# Altium footprint library QFN_Sq_50P_Side_V.PcbLib: 33 footprints (part 1 of 3)
Each footprint in its own frame and in the unit in brackets; x right, y up, seen from the top. Pads: shape width x height; smd on the part's side, far side on the other; paste and mask are expansions set on the pad; w line width, h text height; cw(c..) or ccw(c..) is an arc to the next point about the centre after c.
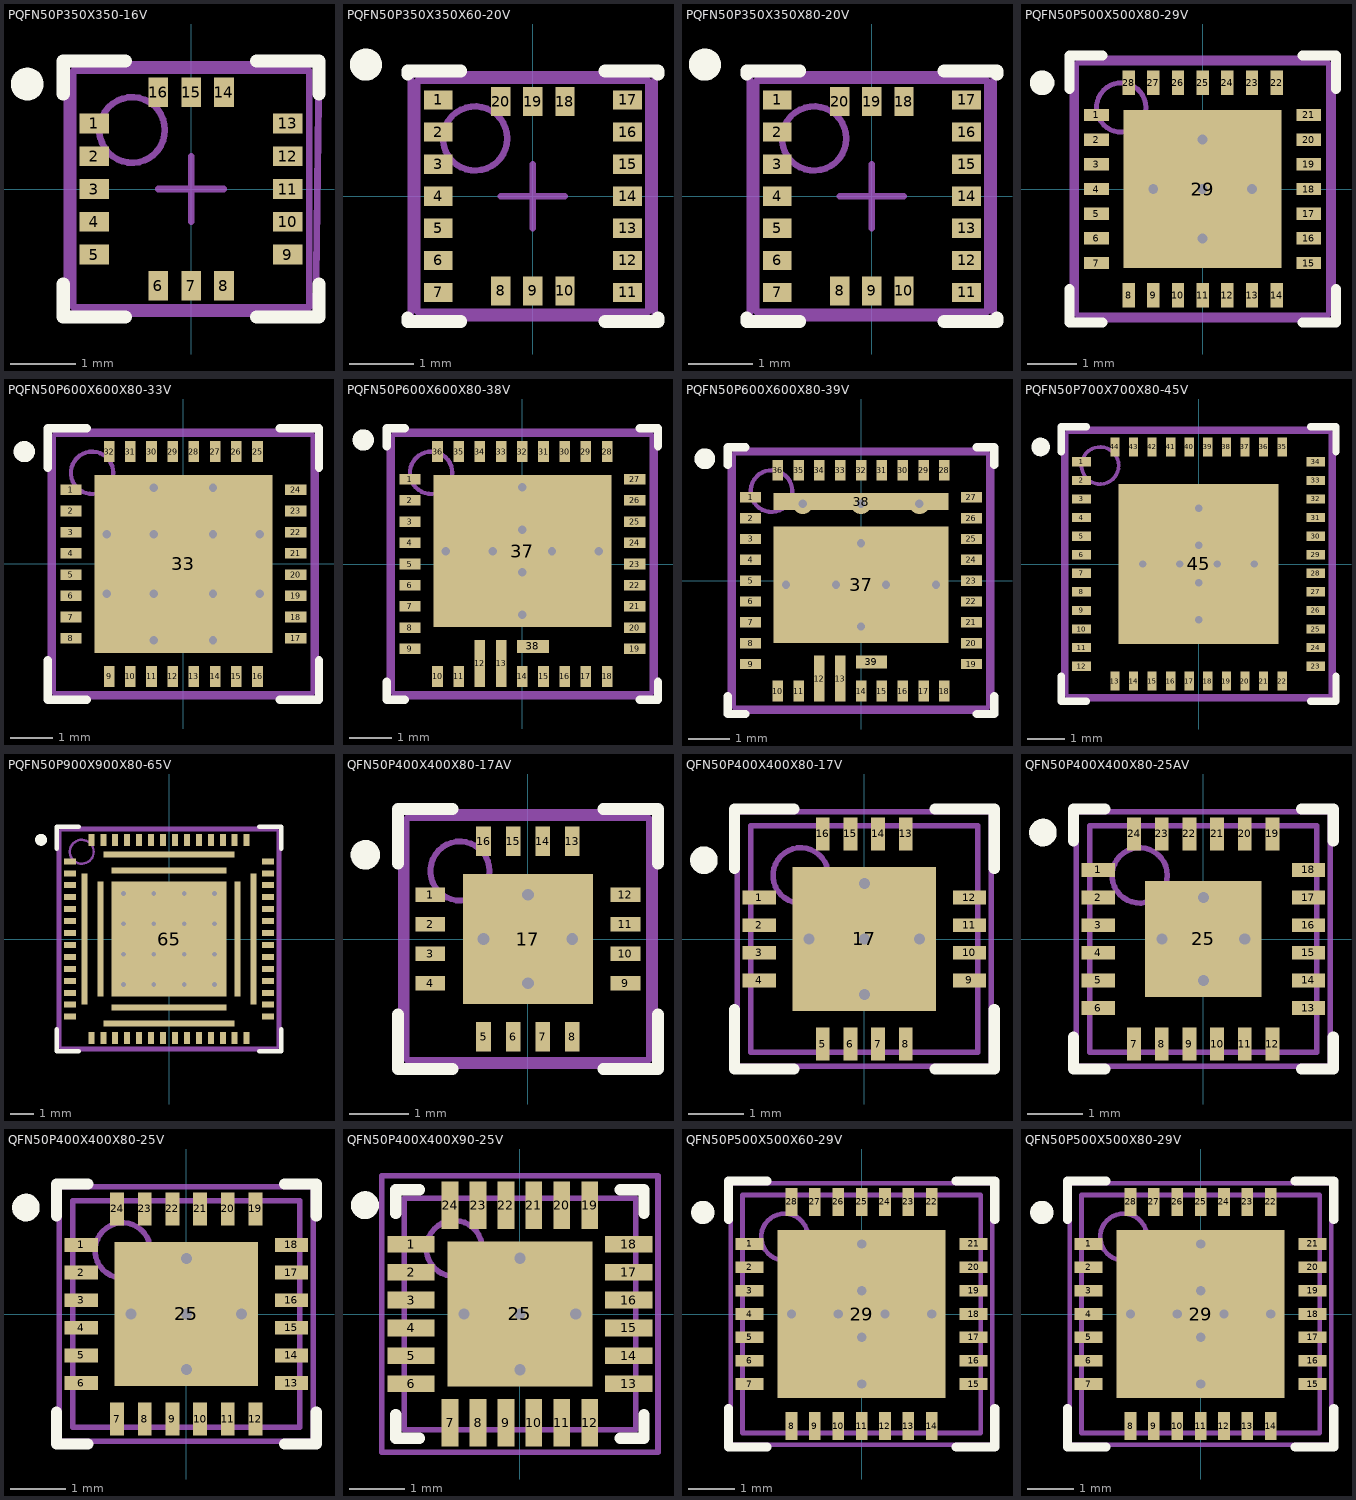
[diagram p0: the footprints below, top view; thin cyan lines are the x and y axes]

## PQFN50P350X350-16V [mm] "PQFN, 16-Leads, Body 3.5x3.5mm, Pitch 0.5mm, NSC Recommended"
height 1.1
pads (16):
  rect 0.45x0.3 smd paste-0.15 mask+0.051: 1(-1.475,1) 2(-1.475,0.5) 3(-1.475,0) 4(-1.475,-0.5) 5(-1.475,-1) 9(1.475,-1) 10(1.475,-0.5) 11(1.475,0) 12(1.475,0.5) 13(1.475,1)
  rect 0.3x0.45 smd paste-0.15 mask+0.051: 6(-0.5,-1.475) 7(0,-1.475) 8(0.5,-1.475) 14(0.5,1.475) 15(0,1.475) 16(-0.5,1.475)
Top Overlay:
  circle w0.25: c-2.5,1.6 r0.125
  lines w0.2: -1.95,-1.45 -1.95,-1.95 -1,-1.95 ; -1.95,1.45 -1.95,1.95 -1,1.95 ; 1,-1.95 1.95,-1.95 1.95,-1.45 ; 1,1.95 1.95,1.95 1.95,1.45
Top Paste:
  region: 0.35,1.8 0.35,1.35 0.65,1.35 0.65,1.8
  region: -0.65,1.8 -0.65,1.35 -0.35,1.35 -0.35,1.8
  region: 0.65,-1.8 0.65,-1.35 0.35,-1.35 0.35,-1.8
  region: -0.35,-1.8 -0.35,-1.35 -0.65,-1.35 -0.65,-1.8
  region: 0.15,-1.8 0.15,-1.35 -0.15,-1.35 -0.15,-1.8
  region: -0.15,1.8 -0.15,1.35 0.15,1.35 0.15,1.8
  rectangle: -1.8,0.85 -1.35,1.15
  rectangle: -1.8,0.35 -1.35,0.65
  rectangle: -1.8,-0.15 -1.35,0.15
  rectangle: -1.8,-0.65 -1.35,-0.35
  rectangle: -1.8,-1.15 -1.35,-0.85
  region: 1.8,-0.85 1.35,-0.85 1.35,-1.15 1.8,-1.15
  region: 1.8,-0.35 1.35,-0.35 1.35,-0.65 1.8,-0.65
  region: 1.8,0.15 1.35,0.15 1.35,-0.15 1.8,-0.15
  region: 1.8,0.65 1.35,0.65 1.35,0.35 1.8,0.35
  region: 1.8,1.15 1.35,1.15 1.35,0.85 1.8,0.85
Mechanical 13:
  circle w0.1: c-0.9,0.9 r0.5
  lines w0.1: -1.8,-1.8 -1.8,1.8 1.8,1.8 1.8,-1.8 -1.8,-1.8
Mechanical 15:
  lines w0.1: -0.5,0 0.5,0 ; 0,-0.5 0,0.5 ; 1.9,1.9 -1.9,1.9 -1.9,-1.9 1.9,-1.9 1.95,1.9
3D body: height 1.1, standoff 0, extent -1.808,-1.8 1.792,1.8

## PQFN50P350X350X60-20V [mm] "PQFN, 20-Leads, Body 3.5x3.5mm, Pitch 0.5mm, NSC Recommended"
height 0.6
pads (20):
  rect 0.45x0.3 smd paste-0.15 mask+0.051: 1(-1.475,1.5) 2(-1.475,1) 3(-1.475,0.5) 4(-1.475,0) 5(-1.475,-0.5) 6(-1.475,-1) 7(-1.475,-1.5) 11(1.475,-1.5) 12(1.475,-1) 13(1.475,-0.5) 14(1.475,0) 15(1.475,0.5) 16(1.475,1) 17(1.475,1.5)
  rect 0.3x0.45 smd paste-0.15 mask+0.051: 8(-0.5,-1.475) 9(0,-1.475) 10(0.5,-1.475) 18(0.5,1.475) 19(0,1.475) 20(-0.5,1.475)
Top Overlay:
  circle w0.25: c-2.6,2.05 r0.125
  lines w0.2: -1.95,-1.9 -1.95,-1.95 -1.125,-1.95 ; -1.95,1.9 -1.95,1.95 -1.125,1.95 ; 1.125,-1.95 1.95,-1.95 1.95,-1.9 ; 1.125,1.95 1.95,1.95 1.95,1.9
Top Paste:
  region: 0.15,-1.8 0.15,-1.35 -0.15,-1.35 -0.15,-1.8
  region: -0.35,-1.8 -0.35,-1.35 -0.65,-1.35 -0.65,-1.8
  region: 0.65,-1.8 0.65,-1.35 0.35,-1.35 0.35,-1.8
  region: -0.15,1.8 -0.15,1.35 0.15,1.35 0.15,1.8
  region: -0.65,1.8 -0.65,1.35 -0.35,1.35 -0.35,1.8
  region: 0.35,1.8 0.35,1.35 0.65,1.35 0.65,1.8
  region: 1.8,0.15 1.35,0.15 1.35,-0.15 1.8,-0.15
  region: 1.8,0.65 1.35,0.65 1.35,0.35 1.8,0.35
  region: 1.8,1.15 1.35,1.15 1.35,0.85 1.8,0.85
  region: 1.8,1.65 1.35,1.65 1.35,1.35 1.8,1.35
  region: 1.8,-0.35 1.35,-0.35 1.35,-0.65 1.8,-0.65
  region: 1.8,-0.85 1.35,-0.85 1.35,-1.15 1.8,-1.15
  region: 1.8,-1.35 1.35,-1.35 1.35,-1.65 1.8,-1.65
  rectangle: -1.8,-1.65 -1.35,-1.35
  rectangle: -1.8,-1.15 -1.35,-0.85
  rectangle: -1.8,-0.65 -1.35,-0.35
  rectangle: -1.8,1.35 -1.35,1.65
  rectangle: -1.8,0.85 -1.35,1.15
  rectangle: -1.8,0.35 -1.35,0.65
  rectangle: -1.8,-0.15 -1.35,0.15
Mechanical 13:
  circle w0.1: c-0.9,0.9 r0.5
  lines w0.1: -1.8,-1.8 1.8,-1.8 1.8,1.8 -1.8,1.8 -1.8,-1.8
Mechanical 15:
  lines w0.1: -0.5,0 0.5,0 ; 0,-0.5 0,0.5 ; -1.9,-1.9 1.9,-1.9 1.9,1.9 -1.9,1.9 -1.9,-1.9
3D body: height 0.6, standoff 0, extent -1.8,-1.8 1.8,1.8

## PQFN50P350X350X80-20V [mm] "PQFN, 20-Leads, Body 3.5x3.5mm, Pitch 0.5mm, NSC Recommended"
height 0.8
pads (20):
  rect 0.45x0.3 smd paste-0.15 mask+0.051: 1(-1.475,1.5) 2(-1.475,1) 3(-1.475,0.5) 4(-1.475,0) 5(-1.475,-0.5) 6(-1.475,-1) 7(-1.475,-1.5) 11(1.475,-1.5) 12(1.475,-1) 13(1.475,-0.5) 14(1.475,0) 15(1.475,0.5) 16(1.475,1) 17(1.475,1.5)
  rect 0.3x0.45 smd paste-0.15 mask+0.051: 8(-0.5,-1.475) 9(0,-1.475) 10(0.5,-1.475) 18(0.5,1.475) 19(0,1.475) 20(-0.5,1.475)
Top Overlay:
  circle w0.25: c-2.6,2.05 r0.125
  lines w0.2: -1.95,-1.9 -1.95,-1.95 -1.125,-1.95 ; -1.95,1.9 -1.95,1.95 -1.125,1.95 ; 1.125,-1.95 1.95,-1.95 1.95,-1.9 ; 1.125,1.95 1.95,1.95 1.95,1.9
Top Paste:
  rectangle: -1.8,-0.15 -1.35,0.15
  rectangle: -1.8,0.35 -1.35,0.65
  rectangle: -1.8,0.85 -1.35,1.15
  rectangle: -1.8,1.35 -1.35,1.65
  rectangle: -1.8,-0.65 -1.35,-0.35
  rectangle: -1.8,-1.15 -1.35,-0.85
  rectangle: -1.8,-1.65 -1.35,-1.35
  region: 1.8,-1.35 1.35,-1.35 1.35,-1.65 1.8,-1.65
  region: 1.8,-0.85 1.35,-0.85 1.35,-1.15 1.8,-1.15
  region: 1.8,-0.35 1.35,-0.35 1.35,-0.65 1.8,-0.65
  region: 1.8,1.65 1.35,1.65 1.35,1.35 1.8,1.35
  region: 1.8,1.15 1.35,1.15 1.35,0.85 1.8,0.85
  region: 1.8,0.65 1.35,0.65 1.35,0.35 1.8,0.35
  region: 1.8,0.15 1.35,0.15 1.35,-0.15 1.8,-0.15
  region: 0.35,1.8 0.35,1.35 0.65,1.35 0.65,1.8
  region: -0.65,1.8 -0.65,1.35 -0.35,1.35 -0.35,1.8
  region: -0.15,1.8 -0.15,1.35 0.15,1.35 0.15,1.8
  region: 0.65,-1.8 0.65,-1.35 0.35,-1.35 0.35,-1.8
  region: -0.35,-1.8 -0.35,-1.35 -0.65,-1.35 -0.65,-1.8
  region: 0.15,-1.8 0.15,-1.35 -0.15,-1.35 -0.15,-1.8
Mechanical 13:
  circle w0.1: c-0.9,0.9 r0.5
  lines w0.1: -1.8,-1.8 1.8,-1.8 1.8,1.8 -1.8,1.8 -1.8,-1.8
Mechanical 15:
  lines w0.1: -0.5,0 0.5,0 ; 0,-0.5 0,0.5 ; -1.9,-1.9 1.9,-1.9 1.9,1.9 -1.9,1.9 -1.9,-1.9
3D body: height 0.8, standoff 0, extent -1.8,-1.8 1.8,1.8

## PQFN50P500X500X80-29V [mm] "PQFN, 28-Leads, Body 5x5mm, Pitch 0.5mm, NSC Recommended"
height 0.8
pads (29):
  rect 0.5x0.25 smd paste-0.125 mask+0.051: 1(-2.15,1.5) 2(-2.15,1) 3(-2.15,0.5) 4(-2.15,0) 5(-2.15,-0.5) 6(-2.15,-1) 7(-2.15,-1.5) 15(2.15,-1.5) 16(2.15,-1) 17(2.15,-0.5) 18(2.15,0) 19(2.15,0.5) 20(2.15,1) 21(2.15,1.5)
  rect 0.25x0.5 smd paste-0.125 mask+0.051: 8(-1.5,-2.15) 9(-1,-2.15) 10(-0.5,-2.15) 11(0,-2.15) 12(0.5,-2.15) 13(1,-2.15) 14(1.5,-2.15) 22(1.5,2.15) 23(1,2.15) 24(0.5,2.15) 25(0,2.15) 26(-0.5,2.15) 27(-1,2.15) 28(-1.5,2.15)
  rect 3.2x3.2 smd paste-1.6 mask+0.051: 29(0,0)
via 0,-1 diameter 0.5 hole 0.2
via 1,0 diameter 0.5 hole 0.2
via 0,0 diameter 0.5 hole 0.2
via -1,0 diameter 0.5 hole 0.2
via 0,1 diameter 0.5 hole 0.2
Top Overlay:
  circle w0.25: c-3.25,2.15 r0.125
  lines w0.2: -2.7,-2.025 -2.7,-2.7 -2.025,-2.7 ; -2.7,2.025 -2.7,2.7 -2.025,2.7 ; 2.025,-2.7 2.7,-2.7 2.7,-2.025 ; 2.025,2.7 2.7,2.7 2.7,2.025
Top Paste:
  rectangle: 0.15,-1.5 1.5,-0.15
  region: -0.15,-0.15 -1.5,-0.15 -1.5,-1.5 -0.15,-1.5
  region: -0.15,1.5 -1.5,1.5 -1.5,0.15 -0.15,0.15
  rectangle: 0.15,0.15 1.5,1.5
  region: 1.625,-2.5 1.625,-2 1.375,-2 1.375,-2.5
  region: 1.125,-2.5 1.125,-2 0.875,-2 0.875,-2.5
  region: 0.625,-2.5 0.625,-2 0.375,-2 0.375,-2.5
  region: 0.125,-2.5 0.125,-2 -0.125,-2 -0.125,-2.5
  region: -0.375,-2.5 -0.375,-2 -0.625,-2 -0.625,-2.5
  region: -0.875,-2.5 -0.875,-2 -1.125,-2 -1.125,-2.5
  region: -1.375,-2.5 -1.375,-2 -1.625,-2 -1.625,-2.5
  region: -1.625,2.5 -1.625,2 -1.375,2 -1.375,2.5
  region: -1.125,2.5 -1.125,2 -0.875,2 -0.875,2.5
  region: -0.625,2.5 -0.625,2 -0.375,2 -0.375,2.5
  region: -0.125,2.5 -0.125,2 0.125,2 0.125,2.5
  region: 0.375,2.5 0.375,2 0.625,2 0.625,2.5
  region: 0.875,2.5 0.875,2 1.125,2 1.125,2.5
  region: 1.375,2.5 1.375,2 1.625,2 1.625,2.5
  region: 2.5,1.625 2,1.625 2,1.375 2.5,1.375
  region: 2.5,1.125 2,1.125 2,0.875 2.5,0.875
  region: 2.5,0.625 2,0.625 2,0.375 2.5,0.375
  region: 2.5,0.125 2,0.125 2,-0.125 2.5,-0.125
  region: 2.5,-0.375 2,-0.375 2,-0.625 2.5,-0.625
  region: 2.5,-0.875 2,-0.875 2,-1.125 2.5,-1.125
  region: 2.5,-1.375 2,-1.375 2,-1.625 2.5,-1.625
  rectangle: -2.5,-1.625 -2,-1.375
  rectangle: -2.5,-1.125 -2,-0.875
  rectangle: -2.5,-0.625 -2,-0.375
  rectangle: -2.5,-0.125 -2,0.125
  rectangle: -2.5,0.375 -2,0.625
  rectangle: -2.5,0.875 -2,1.125
  rectangle: -2.5,1.375 -2,1.625
Mechanical 13:
  circle w0.1: c-1.65,1.65 r0.5
  lines w0.1: -2.55,-2.55 2.55,-2.55 2.55,2.55 -2.55,2.55 -2.55,-2.55
Mechanical 15:
  lines w0.1: -0.5,0 0.5,0 ; 0,-0.5 0,0.5 ; -2.65,-2.65 2.65,-2.65 2.65,2.65 -2.65,2.65 -2.65,-2.65
3D body: height 0.8, standoff 0, extent -2.55,-2.55 2.55,2.55

## PQFN50P600X600X80-33V [mm] "PQFN, 32-Leads, Body 6x6mm, Pitch 0.5mm, NSC Recommended"
height 0.8
pads (33):
  rect 0.5x0.25 smd paste-0.125 mask+0.051: 1(-2.65,1.75) 2(-2.65,1.25) 3(-2.65,0.75) 4(-2.65,0.25) 5(-2.65,-0.25) 6(-2.65,-0.75) 7(-2.65,-1.25) 8(-2.65,-1.75) 17(2.65,-1.75) 18(2.65,-1.25) 19(2.65,-0.75) 20(2.65,-0.25) 21(2.65,0.25) 22(2.65,0.75) 23(2.65,1.25) 24(2.65,1.75)
  rect 0.25x0.5 smd paste-0.125 mask+0.051: 9(-1.75,-2.65) 10(-1.25,-2.65) 11(-0.75,-2.65) 12(-0.25,-2.65) 13(0.25,-2.65) 14(0.75,-2.65) 15(1.25,-2.65) 16(1.75,-2.65) 25(1.75,2.65) 26(1.25,2.65) 27(0.75,2.65) 28(0.25,2.65) 29(-0.25,2.65) 30(-0.75,2.65) 31(-1.25,2.65) 32(-1.75,2.65)
  rect 4.2x4.2 smd paste-2.1 mask+0.051: 33(0,0)
via 1.8,0.7 diameter 0.5 hole 0.2
via -1.8,0.7 diameter 0.5 hole 0.2
via -0.7,0.7 diameter 0.5 hole 0.2
via 0.7,0.7 diameter 0.5 hole 0.2
via 1.8,-0.7 diameter 0.5 hole 0.2
via -1.8,-0.7 diameter 0.5 hole 0.2
via -0.7,-0.7 diameter 0.5 hole 0.2
via 0.7,-0.7 diameter 0.5 hole 0.2
via -0.7,-1.8 diameter 0.5 hole 0.2
via 0.7,-1.8 diameter 0.5 hole 0.2
via -0.7,1.8 diameter 0.5 hole 0.2
via 0.7,1.8 diameter 0.5 hole 0.2
Top Overlay:
  circle w0.25: c-3.75,2.65 r0.125
  lines w0.2: -3.2,-2.275 -3.2,-3.2 -2.275,-3.2 ; -3.2,2.275 -3.2,3.2 -2.275,3.2 ; 2.275,-3.2 3.2,-3.2 3.2,-2.275 ; 2.275,3.2 3.2,3.2 3.2,2.275
Top Paste:
  rectangle: 1.5,1.5 2,2
  region: 1.3,1.3 0.8,1.3 0.8,0.8 1.3,0.8
  region: 1.5,1.3 1.5,0.8 2,0.8 2,1.3
  region: 1.3,1.5 1.3,2 0.8,2 0.8,1.5
  rectangle: 1.5,0.1 2,0.6
  region: 1.3,-0.1 0.8,-0.1 0.8,-0.6 1.3,-0.6
  region: 1.5,-0.1 1.5,-0.6 2,-0.6 2,-0.1
  region: 1.3,0.1 1.3,0.6 0.8,0.6 0.8,0.1
  rectangle: 0.1,1.5 0.6,2
  region: -0.1,1.3 -0.6,1.3 -0.6,0.8 -0.1,0.8
  region: 0.1,1.3 0.1,0.8 0.6,0.8 0.6,1.3
  region: -0.1,1.5 -0.1,2 -0.6,2 -0.6,1.5
  rectangle: -1.3,1.5 -0.8,2
  region: -1.5,1.3 -2,1.3 -2,0.8 -1.5,0.8
  region: -1.3,1.3 -1.3,0.8 -0.8,0.8 -0.8,1.3
  region: -1.5,1.5 -1.5,2 -2,2 -2,1.5
  rectangle: 1.5,-1.3 2,-0.8
  region: 1.3,-1.5 0.8,-1.5 0.8,-2 1.3,-2
  region: 1.5,-1.5 1.5,-2 2,-2 2,-1.5
  region: 1.3,-1.3 1.3,-0.8 0.8,-0.8 0.8,-1.3
  rectangle: -1.3,-1.3 -0.8,-0.8
  region: -1.5,-1.5 -2,-1.5 -2,-2 -1.5,-2
  region: -1.3,-1.5 -1.3,-2 -0.8,-2 -0.8,-1.5
  region: -1.5,-1.3 -1.5,-0.8 -2,-0.8 -2,-1.3
  rectangle: -1.3,0.1 -0.8,0.6
  region: -1.5,-0.1 -2,-0.1 -2,-0.6 -1.5,-0.6
  region: -1.3,-0.1 -1.3,-0.6 -0.8,-0.6 -0.8,-0.1
  region: -1.5,0.1 -1.5,0.6 -2,0.6 -2,0.1
  rectangle: 0.1,-1.3 0.6,-0.8
  region: -0.1,-1.5 -0.6,-1.5 -0.6,-2 -0.1,-2
  region: 0.1,-1.5 0.1,-2 0.6,-2 0.6,-1.5
  region: -0.1,-1.3 -0.1,-0.8 -0.6,-0.8 -0.6,-1.3
  region: -0.1,0.1 -0.1,0.6 -0.6,0.6 -0.6,0.1
  region: 0.1,-0.1 0.1,-0.6 0.6,-0.6 0.6,-0.1
  region: -0.1,-0.1 -0.6,-0.1 -0.6,-0.6 -0.1,-0.6
  region: -3,-1.625 -3,-1.875 -2.5,-1.875 -2.5,-1.625
  region: -3,-1.125 -3,-1.375 -2.5,-1.375 -2.5,-1.125
  region: -3,-0.625 -3,-0.875 -2.5,-0.875 -2.5,-0.625
  region: -3,-0.125 -3,-0.375 -2.5,-0.375 -2.5,-0.125
  region: -3,0.375 -3,0.125 -2.5,0.125 -2.5,0.375
  region: -3,0.875 -3,0.625 -2.5,0.625 -2.5,0.875
  region: -3,1.375 -3,1.125 -2.5,1.125 -2.5,1.375
  region: -3,1.875 -3,1.625 -2.5,1.625 -2.5,1.875
  region: -1.625,3 -1.875,3 -1.875,2.5 -1.625,2.5
  region: -1.125,3 -1.375,3 -1.375,2.5 -1.125,2.5
  region: -0.625,3 -0.875,3 -0.875,2.5 -0.625,2.5
  region: -0.125,3 -0.375,3 -0.375,2.5 -0.125,2.5
  region: 0.375,3 0.125,3 0.125,2.5 0.375,2.5
  region: 0.875,3 0.625,3 0.625,2.5 0.875,2.5
  region: 1.375,3 1.125,3 1.125,2.5 1.375,2.5
  region: 1.875,3 1.625,3 1.625,2.5 1.875,2.5
  region: 3,1.625 3,1.875 2.5,1.875 2.5,1.625
  region: 3,1.125 3,1.375 2.5,1.375 2.5,1.125
  region: 3,0.625 3,0.875 2.5,0.875 2.5,0.625
  region: 3,0.125 3,0.375 2.5,0.375 2.5,0.125
  region: 3,-0.375 3,-0.125 2.5,-0.125 2.5,-0.375
  region: 3,-0.875 3,-0.625 2.5,-0.625 2.5,-0.875
  region: 3,-1.375 3,-1.125 2.5,-1.125 2.5,-1.375
  region: 3,-1.875 3,-1.625 2.5,-1.625 2.5,-1.875
  rectangle: 0.1,0.1 0.6,0.6
  rectangle: -1.875,-3 -1.625,-2.5
  rectangle: -1.375,-3 -1.125,-2.5
  rectangle: -0.875,-3 -0.625,-2.5
  rectangle: -0.375,-3 -0.125,-2.5
  rectangle: 0.125,-3 0.375,-2.5
  rectangle: 0.625,-3 0.875,-2.5
  rectangle: 1.125,-3 1.375,-2.5
  rectangle: 1.625,-3 1.875,-2.5
Mechanical 13:
  circle w0.1: c-2.15,2.15 r0.5
  lines w0.1: -3.05,-3.05 3.05,-3.05 3.05,3.05 -3.05,3.05 -3.05,-3.05
Mechanical 15:
  lines w0.1: -0.5,0 0.5,0 ; 0,-0.5 0,0.5 ; -3.15,-3.15 3.15,-3.15 3.15,3.15 -3.15,3.15 -3.15,-3.15
3D body: height 0.8, standoff 0, extent -3.05,-3.05 3.05,3.05

## PQFN50P600X600X80-38V [mm] "PQFN, 36-Leads, Body 6x6mm, Pitch 0.5mm, NSC Recommended"
height 0.8
pads (38):
  rect 0.5x0.25 smd paste-0.125 mask+0.051: 1(-2.65,2) 2(-2.65,1.5) 3(-2.65,1) 4(-2.65,0.5) 5(-2.65,0) 6(-2.65,-0.5) 7(-2.65,-1) 8(-2.65,-1.5) 9(-2.65,-2) 19(2.65,-2) 20(2.65,-1.5) 21(2.65,-1) 22(2.65,-0.5) 23(2.65,0) 24(2.65,0.5) 25(2.65,1) 26(2.65,1.5) 27(2.65,2)
  rect 0.25x0.5 smd paste-0.125 mask+0.051: 10(-2,-2.65) 11(-1.5,-2.65) 14(0,-2.65) 15(0.5,-2.65) 16(1,-2.65) 17(1.5,-2.65) 18(2,-2.65) 28(2,2.65) 29(1.5,2.65) 30(1,2.65) 31(0.5,2.65) 32(0,2.65) 33(-0.5,2.65) 34(-1,2.65) 35(-1.5,2.65) 36(-2,2.65)
  rect 0.25x1.11 smd paste-0.125 mask+0.051: 12(-1,-2.345) 13(-0.5,-2.345)
  rect 4.2x3.59 smd paste-1.795 mask+0.051: 37(0,0.305)
  rect 0.75x0.31 smd paste-0.155 mask+0.051: 38(0.25,-1.945)
via 0,-1.195 diameter 0.5 hole 0.2
via 0,1.805 diameter 0.5 hole 0.2
via 0,-0.195 diameter 0.5 hole 0.2
via 0,0.805 diameter 0.5 hole 0.2
via -0.7,0.305 diameter 0.5 hole 0.2
via 0.7,0.305 diameter 0.5 hole 0.2
via -1.8,0.305 diameter 0.5 hole 0.2
via 1.8,0.305 diameter 0.5 hole 0.2
Top Overlay:
  circle w0.25: c-3.75,2.925 r0.125
  lines w0.2: -3.2,-2.775 -3.2,-3.2 -2.775,-3.2 ; -3.2,2.775 -3.2,3.2 -2.775,3.2 ; 2.775,-3.2 3.2,-3.2 3.2,-2.775 ; 2.775,3.2 3.2,3.2 3.2,2.775
Top Paste:
  rectangle: 0.1,-1.34 1.95,0.205
  region: -0.1,0.205 -1.95,0.205 -1.95,-1.34 -0.1,-1.34
  region: -0.1,1.95 -1.95,1.95 -1.95,0.405 -0.1,0.405
  rectangle: 0.1,0.405 1.95,1.95
  rectangle: -3,1.875 -2.5,2.125
  rectangle: -3,1.375 -2.5,1.625
  rectangle: -3,0.875 -2.5,1.125
  rectangle: -3,0.375 -2.5,0.625
  rectangle: -3,-0.125 -2.5,0.125
  rectangle: -3,-0.625 -2.5,-0.375
  rectangle: -3,-1.125 -2.5,-0.875
  rectangle: -3,-1.625 -2.5,-1.375
  rectangle: -3,-2.125 -2.5,-1.875
  region: 2.125,-3 2.125,-2.5 1.875,-2.5 1.875,-3
  region: 1.625,-3 1.625,-2.5 1.375,-2.5 1.375,-3
  region: 1.125,-3 1.125,-2.5 0.875,-2.5 0.875,-3
  region: 0.625,-3 0.625,-2.5 0.375,-2.5 0.375,-3
  region: 0.125,-3 0.125,-2.5 -0.125,-2.5 -0.125,-3
  region: -1.375,-3 -1.375,-2.5 -1.625,-2.5 -1.625,-3
  region: -1.875,-3 -1.875,-2.5 -2.125,-2.5 -2.125,-3
  region: 3,2.125 2.5,2.125 2.5,1.875 3,1.875
  region: 3,1.625 2.5,1.625 2.5,1.375 3,1.375
  region: 3,1.125 2.5,1.125 2.5,0.875 3,0.875
  region: 3,0.625 2.5,0.625 2.5,0.375 3,0.375
  region: 3,0.125 2.5,0.125 2.5,-0.125 3,-0.125
  region: 3,-0.375 2.5,-0.375 2.5,-0.625 3,-0.625
  region: 3,-0.875 2.5,-0.875 2.5,-1.125 3,-1.125
  region: 3,-1.375 2.5,-1.375 2.5,-1.625 3,-1.625
  region: 3,-1.875 2.5,-1.875 2.5,-2.125 3,-2.125
  region: -2.125,3 -2.125,2.5 -1.875,2.5 -1.875,3
  region: -1.625,3 -1.625,2.5 -1.375,2.5 -1.375,3
  region: -1.125,3 -1.125,2.5 -0.875,2.5 -0.875,3
  region: -0.625,3 -0.625,2.5 -0.375,2.5 -0.375,3
  region: -0.125,3 -0.125,2.5 0.125,2.5 0.125,3
  region: 0.375,3 0.375,2.5 0.625,2.5 0.625,3
  region: 0.875,3 0.875,2.5 1.125,2.5 1.125,3
  region: 1.375,3 1.375,2.5 1.625,2.5 1.625,3
  region: 1.875,3 1.875,2.5 2.125,2.5 2.125,3
Mechanical 13:
  circle w0.1: c-2.15,2.15 r0.5
  lines w0.1: -3.05,-3.05 -3.05,3.05 3.05,3.05 3.05,-3.05 -3.05,-3.05
Mechanical 15:
  lines w0.1: -0.5,0.305 0.5,0.305 ; 0,-0.195 0,0.805 ; -3.15,-3.15 -3.15,3.15 3.15,3.15 3.15,-3.15 -3.15,-3.15
3D body: height 0.8, standoff 0, extent -3.05,-3.05 3.05,3.05

## PQFN50P600X600X80-39V [mm] "PQFN, 36-Leads, Body 6x6mm, Pitch 0.5mm, NSC Recommended"
height 0.8
pads (39):
  rect 0.5x0.25 smd paste-0.125 mask+0.051: 1(-2.65,2) 2(-2.65,1.5) 3(-2.65,1) 4(-2.65,0.5) 5(-2.65,0) 6(-2.65,-0.5) 7(-2.65,-1) 8(-2.65,-1.5) 9(-2.65,-2) 19(2.65,-2) 20(2.65,-1.5) 21(2.65,-1) 22(2.65,-0.5) 23(2.65,0) 24(2.65,0.5) 25(2.65,1) 26(2.65,1.5) 27(2.65,2)
  rect 0.25x0.5 smd paste-0.125 mask+0.051: 10(-2,-2.65) 11(-1.5,-2.65) 14(0,-2.65) 15(0.5,-2.65) 16(1,-2.65) 17(1.5,-2.65) 18(2,-2.65) 28(2,2.65) 29(1.5,2.65) 30(1,2.65) 31(0.5,2.65) 32(0,2.65) 33(-0.5,2.65) 34(-1,2.65) 35(-1.5,2.65) 36(-2,2.65)
  rect 0.25x1.1 smd paste-0.125 mask+0.051: 12(-1,-2.35) 13(-0.5,-2.35)
  rect 4.2x2.79 smd paste-1.395 mask+0.051: 37(0,-0.1)
  rect 4.2x0.4 smd paste-0.2 mask+0.051: 38(0,1.9)
  rect 0.75x0.31 smd paste-0.155 mask+0.051: 39(0.25,-1.95)
via 1.4,1.85 diameter 0.5 hole 0.2
via 0,1.85 diameter 0.5 hole 0.2
via -1.4,1.85 diameter 0.5 hole 0.2
via 1.8,-0.1 diameter 0.5 hole 0.2
via 0,-1.1 diameter 0.5 hole 0.2
via -1.8,-0.1 diameter 0.5 hole 0.2
via 0.6,-0.1 diameter 0.5 hole 0.2
via 0,0.9 diameter 0.5 hole 0.2
via -0.6,-0.1 diameter 0.5 hole 0.2
Top Overlay:
  circle w0.25: c-3.75,2.925 r0.125
  lines w0.2: -3.2,-2.775 -3.2,-3.2 -2.775,-3.2 ; -3.2,2.775 -3.2,3.2 -2.775,3.2 ; 2.775,-3.2 3.2,-3.2 3.2,-2.775 ; 2.775,3.2 3.2,3.2 3.2,2.775
Top Paste:
  rectangle: 0.1,-1.395 2,-0.2
  region: -0.1,-0.2 -2,-0.2 -2,-1.395 -0.1,-1.395
  region: -0.1,1.195 -2,1.195 -2,0 -0.1,0
  rectangle: 0.1,0 2,1.195
  region: 1.875,3 1.875,2.5 2.125,2.5 2.125,3
  region: 1.375,3 1.375,2.5 1.625,2.5 1.625,3
  region: 0.875,3 0.875,2.5 1.125,2.5 1.125,3
  region: 0.375,3 0.375,2.5 0.625,2.5 0.625,3
  region: -0.125,3 -0.125,2.5 0.125,2.5 0.125,3
  region: -0.625,3 -0.625,2.5 -0.375,2.5 -0.375,3
  region: -1.125,3 -1.125,2.5 -0.875,2.5 -0.875,3
  region: -1.625,3 -1.625,2.5 -1.375,2.5 -1.375,3
  region: -2.125,3 -2.125,2.5 -1.875,2.5 -1.875,3
  region: 3,-1.875 2.5,-1.875 2.5,-2.125 3,-2.125
  region: 3,-1.375 2.5,-1.375 2.5,-1.625 3,-1.625
  region: 3,-0.875 2.5,-0.875 2.5,-1.125 3,-1.125
  region: 3,-0.375 2.5,-0.375 2.5,-0.625 3,-0.625
  region: 3,0.125 2.5,0.125 2.5,-0.125 3,-0.125
  region: 3,0.625 2.5,0.625 2.5,0.375 3,0.375
  region: 3,1.125 2.5,1.125 2.5,0.875 3,0.875
  region: 3,1.625 2.5,1.625 2.5,1.375 3,1.375
  region: 3,2.125 2.5,2.125 2.5,1.875 3,1.875
  region: -1.875,-3 -1.875,-2.5 -2.125,-2.5 -2.125,-3
  region: -1.375,-3 -1.375,-2.5 -1.625,-2.5 -1.625,-3
  region: 0.125,-3 0.125,-2.5 -0.125,-2.5 -0.125,-3
  region: 0.625,-3 0.625,-2.5 0.375,-2.5 0.375,-3
  region: 1.125,-3 1.125,-2.5 0.875,-2.5 0.875,-3
  region: 1.625,-3 1.625,-2.5 1.375,-2.5 1.375,-3
  region: 2.125,-3 2.125,-2.5 1.875,-2.5 1.875,-3
  rectangle: -3,-2.125 -2.5,-1.875
  rectangle: -3,-1.625 -2.5,-1.375
  rectangle: -3,-1.125 -2.5,-0.875
  rectangle: -3,-0.625 -2.5,-0.375
  rectangle: -3,-0.125 -2.5,0.125
  rectangle: -3,0.375 -2.5,0.625
  rectangle: -3,0.875 -2.5,1.125
  rectangle: -3,1.375 -2.5,1.625
  rectangle: -3,1.875 -2.5,2.125
  rectangle: 0.1,1.7 0.6,1.95
  rectangle: 0.8,1.7 1.3,1.95
  rectangle: 1.5,1.7 2,1.95
  rectangle: -0.6,1.7 -0.1,1.95
  rectangle: -1.3,1.7 -0.8,1.95
  rectangle: -2,1.7 -1.5,1.95
Mechanical 13:
  circle w0.1: c-2.15,2.15 r0.5
  lines w0.1: -3.05,-3.05 3.05,-3.05 3.05,3.05 -3.05,3.05 -3.05,-3.05
Mechanical 15:
  lines w0.1: -0.5,0 0.5,0 ; 0,-0.5 0,0.5 ; -3.15,-3.15 3.15,-3.15 3.15,3.15 -3.15,3.15 -3.15,-3.15
3D body: height 0.8, standoff 0, extent -3.05,-3.05 3.05,3.05

## PQFN50P700X700X80-45V [mm] "QFN, 44-Leads, Body 7x7mm, Pitch 0.5mm, NSC Recommended"
height 0.8
pads (45):
  rect 0.5x0.25 smd paste-0.125 mask+0.051: 1(-3.15,2.75) 2(-3.15,2.25) 3(-3.15,1.75) 4(-3.15,1.25) 5(-3.15,0.75) 6(-3.15,0.25) 7(-3.15,-0.25) 8(-3.15,-0.75) 9(-3.15,-1.25) 10(-3.15,-1.75) 11(-3.15,-2.25) 12(-3.15,-2.75) 23(3.15,-2.75) 24(3.15,-2.25) 25(3.15,-1.75) 26(3.15,-1.25) 27(3.15,-0.75) 28(3.15,-0.25) 29(3.15,0.25) 30(3.15,0.75) 31(3.15,1.25) 32(3.15,1.75) 33(3.15,2.25) 34(3.15,2.75)
  rect 0.25x0.5 smd paste-0.125 mask+0.051: 13(-2.25,-3.15) 14(-1.75,-3.15) 15(-1.25,-3.15) 16(-0.75,-3.15) 17(-0.25,-3.15) 18(0.25,-3.15) 19(0.75,-3.15) 20(1.25,-3.15) 21(1.75,-3.15) 22(2.25,-3.15) 35(2.25,3.15) 36(1.75,3.15) 37(1.25,3.15) 38(0.75,3.15) 39(0.25,3.15) 40(-0.25,3.15) 41(-0.75,3.15) 42(-1.25,3.15) 43(-1.75,3.15) 44(-2.25,3.15)
  rect 4.3x4.3 smd paste-2.15 mask+0.051: 45(0,0)
via -1.5,0 diameter 0.5 hole 0.2
via 0,-1.5 diameter 0.5 hole 0.2
via 0,1.5 diameter 0.5 hole 0.2
via 1.5,0 diameter 0.5 hole 0.2
via -0.5,0 diameter 0.5 hole 0.2
via 0.5,0 diameter 0.5 hole 0.2
via 0,-0.5 diameter 0.5 hole 0.2
via 0,0.5 diameter 0.5 hole 0.2
Top Overlay:
  circle w0.25: c-4.25,3.15 r0.125
  lines w0.2: -3.7,-3.025 -3.7,-3.7 -3.025,-3.7 ; -3.7,3.025 -3.7,3.7 -3.025,3.7 ; 3.025,-3.7 3.7,-3.7 3.7,-3.025 ; 3.025,3.7 3.7,3.7 3.7,3.025
Top Paste:
  rectangle: 2.125,-3.5 2.375,-3
  rectangle: 1.625,-3.5 1.875,-3
  rectangle: 1.125,-3.5 1.375,-3
  rectangle: 0.625,-3.5 0.875,-3
  rectangle: 0.125,-3.5 0.375,-3
  rectangle: -0.375,-3.5 -0.125,-3
  rectangle: -0.875,-3.5 -0.625,-3
  rectangle: -1.375,-3.5 -1.125,-3
  rectangle: -1.875,-3.5 -1.625,-3
  rectangle: -2.375,-3.5 -2.125,-3
  region: 3,2.875 3,2.625 3.5,2.625 3.5,2.875
  region: -3.5,-2.625 -3.5,-2.875 -3,-2.875 -3,-2.625
  rectangle: 0.1,0.1 2,2
  region: -0.1,2 -2,2 -2,0.1 -0.1,0.1
  region: -2,-0.1 -2,-2 -0.1,-2 -0.1,-0.1
  rectangle: 0.1,-2 2,-0.1
  region: -3,-2.375 -3,-2.125 -3.5,-2.125 -3.5,-2.375
  region: -3,-1.875 -3,-1.625 -3.5,-1.625 -3.5,-1.875
  region: -3,-1.375 -3,-1.125 -3.5,-1.125 -3.5,-1.375
  region: -3,-0.875 -3,-0.625 -3.5,-0.625 -3.5,-0.875
  region: -3,-0.375 -3,-0.125 -3.5,-0.125 -3.5,-0.375
  region: -3,0.125 -3,0.375 -3.5,0.375 -3.5,0.125
  region: -3,0.625 -3,0.875 -3.5,0.875 -3.5,0.625
  region: -3,1.125 -3,1.375 -3.5,1.375 -3.5,1.125
  region: -3,1.625 -3,1.875 -3.5,1.875 -3.5,1.625
  region: -3,2.125 -3,2.375 -3.5,2.375 -3.5,2.125
  region: -3,2.625 -3,2.875 -3.5,2.875 -3.5,2.625
  region: 3,2.375 3,2.125 3.5,2.125 3.5,2.375
  region: 3,1.875 3,1.625 3.5,1.625 3.5,1.875
  region: 3,1.375 3,1.125 3.5,1.125 3.5,1.375
  region: 3,0.875 3,0.625 3.5,0.625 3.5,0.875
  region: 3,0.375 3,0.125 3.5,0.125 3.5,0.375
  region: 3,-0.125 3,-0.375 3.5,-0.375 3.5,-0.125
  region: 3,-0.625 3,-0.875 3.5,-0.875 3.5,-0.625
  region: 3,-1.125 3,-1.375 3.5,-1.375 3.5,-1.125
  region: 3,-1.625 3,-1.875 3.5,-1.875 3.5,-1.625
  region: 3,-2.125 3,-2.375 3.5,-2.375 3.5,-2.125
  region: 3,-2.625 3,-2.875 3.5,-2.875 3.5,-2.625
  rectangle: -2.375,3 -2.125,3.5
  rectangle: -1.875,3 -1.625,3.5
  rectangle: -1.375,3 -1.125,3.5
  rectangle: -0.875,3 -0.625,3.5
  rectangle: -0.375,3 -0.125,3.5
  rectangle: 0.125,3 0.375,3.5
  rectangle: 0.625,3 0.875,3.5
  rectangle: 1.125,3 1.375,3.5
  rectangle: 1.625,3 1.875,3.5
  rectangle: 2.125,3 2.375,3.5
Mechanical 13:
  circle w0.1: c-2.65,2.65 r0.5
  lines w0.1: -3.55,-3.55 3.55,-3.55 3.55,3.55 -3.55,3.55 -3.55,-3.55
Mechanical 15:
  lines w0.1: -0.5,0 0.5,0 ; 0,-0.5 0,0.5 ; -3.65,-3.65 3.65,-3.65 3.65,3.65 -3.65,3.65 -3.65,-3.65
3D body: height 0.8, standoff 0, extent -3.549,-3.549 3.549,3.549

## PQFN50P900X900X80-65V [mm] "PQFN, 56-Leads, Body 9x9mm, Pitch 0.5mm, NSC Recommended"
height 0.8
pads (65):
  rect 0.5x0.25 smd paste-0.125 mask+0.051: 1(-4.15,3.25) 2(-4.15,2.75) 3(-4.15,2.25) 4(-4.15,1.75) 5(-4.15,1.25) 6(-4.15,0.75) 7(-4.15,0.25) 8(-4.15,-0.25) 9(-4.15,-0.75) 10(-4.15,-1.25) 11(-4.15,-1.75) 12(-4.15,-2.25) 13(-4.15,-2.75) 14(-4.15,-3.25) 29(4.15,-3.25) 30(4.15,-2.75) 31(4.15,-2.25) 32(4.15,-1.75) 33(4.15,-1.25) 34(4.15,-0.75) 35(4.15,-0.25) 36(4.15,0.25) 37(4.15,0.75) 38(4.15,1.25) 39(4.15,1.75) 40(4.15,2.25) 41(4.15,2.75) 42(4.15,3.25)
  rect 0.25x0.5 smd paste-0.125 mask+0.051: 15(-3.25,-4.15) 16(-2.75,-4.15) 17(-2.25,-4.15) 18(-1.75,-4.15) 19(-1.25,-4.15) 20(-0.75,-4.15) 21(-0.25,-4.15) 22(0.25,-4.15) 23(0.75,-4.15) 24(1.25,-4.15) 25(1.75,-4.15) 26(2.25,-4.15) 27(2.75,-4.15) 28(3.25,-4.15) 43(3.25,4.15) 44(2.75,4.15) 45(2.25,4.15) 46(1.75,4.15) 47(1.25,4.15) 48(0.75,4.15) 49(0.25,4.15) 50(-0.25,4.15) 51(-0.75,4.15) 52(-1.25,4.15) 53(-1.75,4.15) 54(-2.25,4.15) 55(-2.75,4.15) 56(-3.25,4.15)
  rect 0.25x5.5 smd paste-0.125 mask+0.051: 57(-3.525,0) 61(3.525,0)
  rect 0.25x4.8 smd paste-0.125 mask+0.051: 58(-2.875,0) 62(2.875,0)
  rect 5.5x0.25 smd paste-0.125 mask+0.051: 59(0,3.525) 63(0,-3.525)
  rect 4.8x0.25 smd paste-0.125 mask+0.051: 60(0,2.875) 64(0,-2.875)
  rect 4.8x4.8 smd paste-2.4 mask+0.051: 65(0,0)
via 1.905,-1.905 diameter 0.5 hole 0.2
via 0.635,-1.905 diameter 0.5 hole 0.2
via -0.635,-1.905 diameter 0.5 hole 0.2
via -1.905,-1.905 diameter 0.5 hole 0.2
via 1.905,-0.635 diameter 0.5 hole 0.2
via 0.635,-0.635 diameter 0.5 hole 0.2
via -0.635,-0.635 diameter 0.5 hole 0.2
via -1.905,-0.635 diameter 0.5 hole 0.2
via 1.905,0.635 diameter 0.5 hole 0.2
via 0.635,0.635 diameter 0.5 hole 0.2
via -0.635,0.635 diameter 0.5 hole 0.2
via -1.905,0.635 diameter 0.5 hole 0.2
via 1.905,1.905 diameter 0.5 hole 0.2
via 0.635,1.905 diameter 0.5 hole 0.2
via -0.635,1.905 diameter 0.5 hole 0.2
via -1.905,1.905 diameter 0.5 hole 0.2
Top Overlay:
  circle w0.25: c-5.35,4.15 r0.125
  lines w0.2: -4.7,-3.775 -4.7,-4.7 -3.775,-4.7 ; -4.7,3.775 -4.7,4.7 -3.775,4.7 ; 3.775,-4.7 4.7,-4.7 4.7,-3.775 ; 3.775,4.7 4.7,4.7 4.7,3.775
Top Paste:
  drawing of 152 lines, arcs and shapes, not listed
Mechanical 13:
  circle w0.1: c-3.65,3.65 r0.5
  lines w0.1: -4.55,-4.55 4.55,-4.55 4.55,4.55 -4.55,4.55 -4.55,-4.55
Mechanical 15:
  lines w0.1: -0.5,0 0.5,0 ; 0,-0.5 0,0.5 ; -4.65,-4.65 4.65,-4.65 4.65,4.65 -4.65,4.65 -4.65,-4.65
3D body: height 0.8, standoff 0, extent -4.55,-4.55 4.55,4.55

## QFN50P400X400X80-17AV [mm] "QFN, 16-Leads, Body 4x4mm, Pitch 0.5mm, NSC Recommended"
height 0.8
pads (17):
  rect 0.5x0.25 smd paste-0.125 mask+0.051: 1(-1.65,0.75) 2(-1.65,0.25) 3(-1.65,-0.25) 4(-1.65,-0.75) 9(1.65,-0.75) 10(1.65,-0.25) 11(1.65,0.25) 12(1.65,0.75)
  rect 0.25x0.5 smd paste-0.125 mask+0.051: 5(-0.75,-1.65) 6(-0.25,-1.65) 7(0.25,-1.65) 8(0.75,-1.65) 13(0.75,1.65) 14(0.25,1.65) 15(-0.25,1.65) 16(-0.75,1.65)
  rect 2.2x2.2 smd paste-1.1 mask+0.051: 17(0,0)
via 0.75,0 diameter 0.5 hole 0.2
via -0.75,0 diameter 0.5 hole 0.2
via 0,0.75 diameter 0.5 hole 0.2
via 0,-0.75 diameter 0.5 hole 0.2
Top Overlay:
  circle w0.25: c-2.75,1.425 r0.125
  lines w0.2: -2.2,-1.275 -2.2,-2.2 -1.275,-2.2 ; -2.2,1.275 -2.2,2.2 -1.275,2.2 ; 1.275,-2.2 2.2,-2.2 2.2,-1.275 ; 1.275,2.2 2.2,2.2 2.2,1.275
Top Paste:
  region: 0.15,-0.15 0.15,-1 1,-1 1,-0.15
  region: -0.15,-0.15 -1,-0.15 -1,-1 -0.15,-1
  region: -0.15,0.15 -0.15,1 -1,1 -1,0.15
  rectangle: 0.15,0.15 1,1
  rectangle: -2,0.625 -1.5,0.875
  rectangle: -2,0.125 -1.5,0.375
  rectangle: -2,-0.375 -1.5,-0.125
  rectangle: -2,-0.875 -1.5,-0.625
  region: 0.875,-2 0.875,-1.5 0.625,-1.5 0.625,-2
  region: 0.375,-2 0.375,-1.5 0.125,-1.5 0.125,-2
  region: -0.125,-2 -0.125,-1.5 -0.375,-1.5 -0.375,-2
  region: -0.625,-2 -0.625,-1.5 -0.875,-1.5 -0.875,-2
  region: 2,0.875 1.5,0.875 1.5,0.625 2,0.625
  region: 2,0.375 1.5,0.375 1.5,0.125 2,0.125
  region: 2,-0.125 1.5,-0.125 1.5,-0.375 2,-0.375
  region: 2,-0.625 1.5,-0.625 1.5,-0.875 2,-0.875
  region: -0.875,2 -0.875,1.5 -0.625,1.5 -0.625,2
  region: -0.375,2 -0.375,1.5 -0.125,1.5 -0.125,2
  region: 0.125,2 0.125,1.5 0.375,1.5 0.375,2
  region: 0.625,2 0.625,1.5 0.875,1.5 0.875,2
Mechanical 13:
  circle w0.1: c-1.15,1.15 r0.5
  lines w0.1: -2.05,-2.05 2.05,-2.05 2.05,2.05 -2.05,2.05 -2.05,-2.05
Mechanical 15:
  lines w0.1: -0.5,0 0.5,0 ; 0,-0.5 0,0.5 ; -2.15,-2.15 2.15,-2.15 2.15,2.15 -2.15,2.15 -2.15,-2.15
3D body: height 0.8, standoff 0, extent -2.05,-2.05 2.05,2.05

## QFN50P400X400X80-17V [mm] "QFN, 16-Leads, Body 4x4mm, Pitch 0.5mm, NSC Recommended"
height 0.8
pads (17):
  rect 0.6x0.25 smd paste-0.125 mask+0.051: 1(-1.9,0.75) 2(-1.9,0.25) 3(-1.9,-0.25) 4(-1.9,-0.75) 9(1.9,-0.75) 10(1.9,-0.25) 11(1.9,0.25) 12(1.9,0.75)
  rect 0.25x0.6 smd paste-0.125 mask+0.051: 5(-0.75,-1.9) 6(-0.25,-1.9) 7(0.25,-1.9) 8(0.75,-1.9) 13(0.75,1.9) 14(0.25,1.9) 15(-0.25,1.9) 16(-0.75,1.9)
  rect 2.6x2.6 smd paste-1.3 mask+0.051: 17(0,0)
via 0,-1 diameter 0.5 hole 0.2
via 0,1 diameter 0.5 hole 0.2
via -1,0 diameter 0.5 hole 0.2
via 1,0 diameter 0.5 hole 0.2
via 0,0 diameter 0.5 hole 0.2
Top Overlay:
  circle w0.25: c-2.9,1.425 r0.125
  lines w0.2: -2.35,-1.275 -2.35,-2.35 -1.275,-2.35 ; -2.35,1.275 -2.35,2.35 -1.275,2.35 ; 1.275,-2.35 2.35,-2.35 2.35,-1.275 ; 1.275,2.35 2.35,2.35 2.35,1.275
Top Paste:
  rectangle: 0.1,-1.2 1.2,-0.1
  region: -0.1,-0.1 -1.2,-0.1 -1.2,-1.2 -0.1,-1.2
  region: -0.1,1.2 -1.2,1.2 -1.2,0.1 -0.1,0.1
  rectangle: 0.1,0.1 1.2,1.2
  rectangle: -2.4,0.625 -1.7,0.875
  rectangle: -2.4,0.125 -1.7,0.375
  rectangle: -2.4,-0.375 -1.7,-0.125
  rectangle: -2.4,-0.875 -1.7,-0.625
  region: 2.4,0.875 1.7,0.875 1.7,0.625 2.4,0.625
  region: 2.4,0.375 1.7,0.375 1.7,0.125 2.4,0.125
  region: 2.4,-0.125 1.7,-0.125 1.7,-0.375 2.4,-0.375
  region: 2.4,-0.625 1.7,-0.625 1.7,-0.875 2.4,-0.875
  region: -0.875,2.4 -0.875,1.7 -0.625,1.7 -0.625,2.4
  region: -0.375,2.4 -0.375,1.7 -0.125,1.7 -0.125,2.4
  region: 0.125,2.4 0.125,1.7 0.375,1.7 0.375,2.4
  region: 0.625,2.4 0.625,1.7 0.875,1.7 0.875,2.4
  region: 0.875,-2.4 0.875,-1.7 0.625,-1.7 0.625,-2.4
  region: 0.375,-2.4 0.375,-1.7 0.125,-1.7 0.125,-2.4
  region: -0.125,-2.4 -0.125,-1.7 -0.375,-1.7 -0.375,-2.4
  region: -0.625,-2.4 -0.625,-1.7 -0.875,-1.7 -0.875,-2.4
Mechanical 13:
  circle w0.1: c-1.15,1.15 r0.5
  lines w0.1: -2.05,-2.05 -2.05,2.05 2.05,2.05 2.05,-2.05 -2.05,-2.05
Mechanical 15:
  lines w0.1: -0.5,0 0.5,0 ; 0,-0.5 0,0.5 ; -2.3,-2.3 -2.3,2.3 2.3,2.3 2.3,-2.3 -2.3,-2.3
3D body: height 0.8, standoff 0, extent -2.05,-2.05 2.05,2.05

## QFN50P400X400X80-25AV [mm] "QFN, 24-Leads, Body 4x4mm, Pitch 0.5mm, NSC Recommended"
height 0.8
pads (25):
  rect 0.6x0.25 smd paste-0.125 mask+0.051: 1(-1.9,1.25) 2(-1.9,0.75) 3(-1.9,0.25) 4(-1.9,-0.25) 5(-1.9,-0.75) 6(-1.9,-1.25) 13(1.9,-1.25) 14(1.9,-0.75) 15(1.9,-0.25) 16(1.9,0.25) 17(1.9,0.75) 18(1.9,1.25)
  rect 0.25x0.6 smd paste-0.125 mask+0.051: 7(-1.25,-1.9) 8(-0.75,-1.9) 9(-0.25,-1.9) 10(0.25,-1.9) 11(0.75,-1.9) 12(1.25,-1.9) 19(1.25,1.9) 20(0.75,1.9) 21(0.25,1.9) 22(-0.25,1.9) 23(-0.75,1.9) 24(-1.25,1.9)
  rect 2.1x2.1 smd paste-1.05 mask+0.051: 25(0,0)
via 0.75,0 diameter 0.5 hole 0.2
via -0.75,0 diameter 0.5 hole 0.2
via 0,0.75 diameter 0.5 hole 0.2
via 0,-0.75 diameter 0.5 hole 0.2
Top Overlay:
  circle w0.25: c-2.9,1.925 r0.125
  lines w0.2: -2.35,-1.775 -2.35,-2.35 -1.775,-2.35 ; -2.35,1.775 -2.35,2.35 -1.775,2.35 ; 1.775,-2.35 2.35,-2.35 2.35,-1.775 ; 1.775,2.35 2.35,2.35 2.35,1.775
Top Paste:
  rectangle: -0.95,-0.95 0.95,0.95
  region: 1.125,2.4 1.125,1.7 1.375,1.7 1.375,2.4
  region: 0.625,2.4 0.625,1.7 0.875,1.7 0.875,2.4
  region: 0.125,2.4 0.125,1.7 0.375,1.7 0.375,2.4
  region: -0.375,2.4 -0.375,1.7 -0.125,1.7 -0.125,2.4
  region: -0.875,2.4 -0.875,1.7 -0.625,1.7 -0.625,2.4
  region: -1.375,2.4 -1.375,1.7 -1.125,1.7 -1.125,2.4
  region: 2.4,-1.125 1.7,-1.125 1.7,-1.375 2.4,-1.375
  region: 2.4,-0.625 1.7,-0.625 1.7,-0.875 2.4,-0.875
  region: 2.4,-0.125 1.7,-0.125 1.7,-0.375 2.4,-0.375
  region: 2.4,0.375 1.7,0.375 1.7,0.125 2.4,0.125
  region: 2.4,0.875 1.7,0.875 1.7,0.625 2.4,0.625
  region: 2.4,1.375 1.7,1.375 1.7,1.125 2.4,1.125
  region: -1.125,-2.4 -1.125,-1.7 -1.375,-1.7 -1.375,-2.4
  region: -0.625,-2.4 -0.625,-1.7 -0.875,-1.7 -0.875,-2.4
  region: -0.125,-2.4 -0.125,-1.7 -0.375,-1.7 -0.375,-2.4
  region: 0.375,-2.4 0.375,-1.7 0.125,-1.7 0.125,-2.4
  region: 0.875,-2.4 0.875,-1.7 0.625,-1.7 0.625,-2.4
  region: 1.375,-2.4 1.375,-1.7 1.125,-1.7 1.125,-2.4
  rectangle: -2.4,-1.375 -1.7,-1.125
  rectangle: -2.4,-0.875 -1.7,-0.625
  rectangle: -2.4,-0.375 -1.7,-0.125
  rectangle: -2.4,0.125 -1.7,0.375
  rectangle: -2.4,0.625 -1.7,0.875
  rectangle: -2.4,1.125 -1.7,1.375
Mechanical 13:
  circle w0.1: c-1.15,1.15 r0.5
  lines w0.1: -2.05,-2.05 -2.05,2.05 2.05,2.05 2.05,-2.05 -2.05,-2.05
Mechanical 15:
  lines w0.1: -0.5,0 0.5,0 ; 0,-0.5 0,0.5 ; -2.3,-2.3 -2.3,2.3 2.3,2.3 2.3,-2.3 -2.3,-2.3
3D body: height 0.8, standoff 0, extent -2.05,-2.05 2.05,2.05

## QFN50P400X400X80-25V [mm] "QFN, 24-Leads, Body 4x4mm, Pitch 0.5mm, NSC Recommended"
height 0.8
pads (25):
  rect 0.6x0.25 smd paste-0.125 mask+0.051: 1(-1.9,1.25) 2(-1.9,0.75) 3(-1.9,0.25) 4(-1.9,-0.25) 5(-1.9,-0.75) 6(-1.9,-1.25) 13(1.9,-1.25) 14(1.9,-0.75) 15(1.9,-0.25) 16(1.9,0.25) 17(1.9,0.75) 18(1.9,1.25)
  rect 0.25x0.6 smd paste-0.125 mask+0.051: 7(-1.25,-1.9) 8(-0.75,-1.9) 9(-0.25,-1.9) 10(0.25,-1.9) 11(0.75,-1.9) 12(1.25,-1.9) 19(1.25,1.9) 20(0.75,1.9) 21(0.25,1.9) 22(-0.25,1.9) 23(-0.75,1.9) 24(-1.25,1.9)
  rect 2.6x2.6 smd paste-1.3 mask+0.051: 25(0,0)
via 0,-1 diameter 0.5 hole 0.2
via 0,1 diameter 0.5 hole 0.2
via -1,0 diameter 0.5 hole 0.2
via 1,0 diameter 0.5 hole 0.2
via 0,0 diameter 0.5 hole 0.2
Top Overlay:
  circle w0.25: c-2.9,1.925 r0.125
  lines w0.2: -2.35,-1.775 -2.35,-2.35 -1.775,-2.35 ; -2.35,1.775 -2.35,2.35 -1.775,2.35 ; 1.775,-2.35 2.35,-2.35 2.35,-1.775 ; 1.775,2.35 2.35,2.35 2.35,1.775
Top Paste:
  rectangle: 0.1,0.1 1.2,1.2
  region: -0.1,1.2 -1.2,1.2 -1.2,0.1 -0.1,0.1
  region: -0.1,-0.1 -1.2,-0.1 -1.2,-1.2 -0.1,-1.2
  rectangle: 0.1,-1.2 1.2,-0.1
  rectangle: -2.4,1.125 -1.7,1.375
  rectangle: -2.4,0.625 -1.7,0.875
  rectangle: -2.4,0.125 -1.7,0.375
  rectangle: -2.4,-0.375 -1.7,-0.125
  rectangle: -2.4,-0.875 -1.7,-0.625
  rectangle: -2.4,-1.375 -1.7,-1.125
  region: 1.375,-2.4 1.375,-1.7 1.125,-1.7 1.125,-2.4
  region: 0.875,-2.4 0.875,-1.7 0.625,-1.7 0.625,-2.4
  region: 0.375,-2.4 0.375,-1.7 0.125,-1.7 0.125,-2.4
  region: -0.125,-2.4 -0.125,-1.7 -0.375,-1.7 -0.375,-2.4
  region: -0.625,-2.4 -0.625,-1.7 -0.875,-1.7 -0.875,-2.4
  region: -1.125,-2.4 -1.125,-1.7 -1.375,-1.7 -1.375,-2.4
  region: 2.4,1.375 1.7,1.375 1.7,1.125 2.4,1.125
  region: 2.4,0.875 1.7,0.875 1.7,0.625 2.4,0.625
  region: 2.4,0.375 1.7,0.375 1.7,0.125 2.4,0.125
  region: 2.4,-0.125 1.7,-0.125 1.7,-0.375 2.4,-0.375
  region: 2.4,-0.625 1.7,-0.625 1.7,-0.875 2.4,-0.875
  region: 2.4,-1.125 1.7,-1.125 1.7,-1.375 2.4,-1.375
  region: -1.375,2.4 -1.375,1.7 -1.125,1.7 -1.125,2.4
  region: -0.875,2.4 -0.875,1.7 -0.625,1.7 -0.625,2.4
  region: -0.375,2.4 -0.375,1.7 -0.125,1.7 -0.125,2.4
  region: 0.125,2.4 0.125,1.7 0.375,1.7 0.375,2.4
  region: 0.625,2.4 0.625,1.7 0.875,1.7 0.875,2.4
  region: 1.125,2.4 1.125,1.7 1.375,1.7 1.375,2.4
Mechanical 13:
  circle w0.1: c-1.15,1.15 r0.5
  lines w0.1: -2.05,-2.05 2.05,-2.05 2.05,2.05 -2.05,2.05 -2.05,-2.05
Mechanical 15:
  lines w0.1: -0.5,0 0.5,0 ; 0,-0.5 0,0.5 ; -2.3,-2.3 2.3,-2.3 2.3,2.3 -2.3,2.3 -2.3,-2.3
3D body: height 0.8, standoff 0, extent -2.05,-2.05 2.05,2.05

## QFN50P400X400X90-25V [mm] "QFN, 24-Leads, Body 4x4mm, Pitch 0.5mm, Microchip Recommended"
height 0.9
pads (25):
  rect 0.85x0.3 smd: 1(-1.95,1.25) 2(-1.95,0.75) 3(-1.95,0.25) 4(-1.95,-0.25) 5(-1.95,-0.75) 6(-1.95,-1.25) 13(1.95,-1.25) 14(1.95,-0.75) 15(1.95,-0.25) 16(1.95,0.25) 17(1.95,0.75) 18(1.95,1.25)
  rect 0.3x0.85 smd: 7(-1.25,-1.95) 8(-0.75,-1.95) 9(-0.25,-1.95) 10(0.25,-1.95) 11(0.75,-1.95) 12(1.25,-1.95) 19(1.25,1.95) 20(0.75,1.95) 21(0.25,1.95) 22(-0.25,1.95) 23(-0.75,1.95) 24(-1.25,1.95)
  rect 2.6x2.6 smd paste-1.3: 25(0,0)
via 0,0 diameter 0.5 hole 0.2
via 1,0 diameter 0.5 hole 0.2
via -1,0 diameter 0.5 hole 0.2
via 0,1 diameter 0.5 hole 0.2
via 0,-1 diameter 0.5 hole 0.2
Top Overlay:
  circle w0.25: c-2.775,1.95 r0.125
  lines w0.2: -2.225,-1.8 -2.225,-2.225 -1.8,-2.225 ; -2.225,1.8 -2.225,2.225 -1.8,2.225 ; 1.8,-2.225 2.225,-2.225 2.225,-1.8 ; 1.8,2.225 2.225,2.225 2.225,1.8
Top Paste:
  rectangle: 0.1,-1.2 1.2,-0.1
  region: -0.1,-0.1 -1.2,-0.1 -1.2,-1.2 -0.1,-1.2
  region: -0.1,1.2 -1.2,1.2 -1.2,0.1 -0.1,0.1
  rectangle: 0.1,0.1 1.2,1.2
Mechanical 13:
  circle w0.1: c-1.175,1.175 r0.5
  lines w0.1: -2.075,-2.075 -2.075,2.075 2.075,2.075 2.075,-2.075 -2.075,-2.075
Mechanical 15:
  lines w0.1: -0.5,0 0.5,0 ; 0,-0.5 0,0.5 ; -2.475,-2.475 2.475,-2.475 2.475,2.475 -2.475,2.475 -2.475,-2.475
3D body: height 0.9, standoff 0, extent -2.074,-2.074 2.074,2.074

## QFN50P500X500X60-29V [mm] "QFN, 28-Leads, Body 5x5mm, Pitch 0.5mm, NSC Recommended"
height 0.6
pads (29):
  rect 0.6x0.25 smd paste-0.125 mask+0.051: 1(-2.4,1.5) 2(-2.4,1) 3(-2.4,0.5) 4(-2.4,0) 5(-2.4,-0.5) 6(-2.4,-1) 7(-2.4,-1.5) 15(2.4,-1.5) 16(2.4,-1) 17(2.4,-0.5) 18(2.4,0) 19(2.4,0.5) 20(2.4,1) 21(2.4,1.5)
  rect 0.25x0.6 smd paste-0.125 mask+0.051: 8(-1.5,-2.4) 9(-1,-2.4) 10(-0.5,-2.4) 11(0,-2.4) 12(0.5,-2.4) 13(1,-2.4) 14(1.5,-2.4) 22(1.5,2.4) 23(1,2.4) 24(0.5,2.4) 25(0,2.4) 26(-0.5,2.4) 27(-1,2.4) 28(-1.5,2.4)
  rect 3.6x3.6 smd paste-1.8 mask+0.051: 29(0,0)
via 0,0.5 diameter 0.5 hole 0.2
via 0,-0.5 diameter 0.5 hole 0.2
via 0.5,0 diameter 0.5 hole 0.2
via -0.5,0 diameter 0.5 hole 0.2
via 1.5,0 diameter 0.5 hole 0.2
via 0,1.5 diameter 0.5 hole 0.2
via 0,-1.5 diameter 0.5 hole 0.2
via -1.5,0 diameter 0.5 hole 0.2
Top Overlay:
  circle w0.25: c-3.4,2.175 r0.125
  lines w0.2: -2.85,-2.025 -2.85,-2.85 -2.025,-2.85 ; -2.85,2.025 -2.85,2.85 -2.025,2.85 ; 2.025,-2.85 2.85,-2.85 2.85,-2.025 ; 2.025,2.85 2.85,2.85 2.85,2.025
Top Paste:
  rectangle: -2.9,1.375 -2.2,1.625
  rectangle: -2.9,0.875 -2.2,1.125
  rectangle: -2.9,0.375 -2.2,0.625
  rectangle: -2.9,-0.125 -2.2,0.125
  rectangle: -2.9,-0.625 -2.2,-0.375
  rectangle: -2.9,-1.125 -2.2,-0.875
  rectangle: -2.9,-1.625 -2.2,-1.375
  region: 2.9,-1.375 2.2,-1.375 2.2,-1.625 2.9,-1.625
  region: 2.9,-0.875 2.2,-0.875 2.2,-1.125 2.9,-1.125
  region: 2.9,-0.375 2.2,-0.375 2.2,-0.625 2.9,-0.625
  region: 2.9,0.125 2.2,0.125 2.2,-0.125 2.9,-0.125
  region: 2.9,0.625 2.2,0.625 2.2,0.375 2.9,0.375
  region: 2.9,1.125 2.2,1.125 2.2,0.875 2.9,0.875
  region: 2.9,1.625 2.2,1.625 2.2,1.375 2.9,1.375
  region: 1.375,2.9 1.375,2.2 1.625,2.2 1.625,2.9
  region: 0.875,2.9 0.875,2.2 1.125,2.2 1.125,2.9
  region: 0.375,2.9 0.375,2.2 0.625,2.2 0.625,2.9
  region: -0.125,2.9 -0.125,2.2 0.125,2.2 0.125,2.9
  region: -0.625,2.9 -0.625,2.2 -0.375,2.2 -0.375,2.9
  region: -1.125,2.9 -1.125,2.2 -0.875,2.2 -0.875,2.9
  region: -1.625,2.9 -1.625,2.2 -1.375,2.2 -1.375,2.9
  region: 1.625,-2.9 1.625,-2.2 1.375,-2.2 1.375,-2.9
  region: 1.125,-2.9 1.125,-2.2 0.875,-2.2 0.875,-2.9
  region: 0.625,-2.9 0.625,-2.2 0.375,-2.2 0.375,-2.9
  region: 0.125,-2.9 0.125,-2.2 -0.125,-2.2 -0.125,-2.9
  region: -0.375,-2.9 -0.375,-2.2 -0.625,-2.2 -0.625,-2.9
  region: -0.875,-2.9 -0.875,-2.2 -1.125,-2.2 -1.125,-2.9
  region: -1.375,-2.9 -1.375,-2.2 -1.625,-2.2 -1.625,-2.9
  rectangle: 0.15,0.15 1.7,1.7
  region: -0.15,1.7 -1.7,1.7 -1.7,0.15 -0.15,0.15
  region: -0.15,-0.15 -1.7,-0.15 -1.7,-1.7 -0.15,-1.7
  rectangle: 0.15,-1.7 1.7,-0.15
Mechanical 13:
  circle w0.1: c-1.65,1.65 r0.5
  lines w0.1: -2.55,-2.55 2.55,-2.55 2.55,2.55 -2.55,2.55 -2.55,-2.55
Mechanical 15:
  lines w0.1: -0.5,0 0.5,0 ; 0,-0.5 0,0.5 ; -2.8,-2.8 2.8,-2.8 2.8,2.8 -2.8,2.8 -2.8,-2.8
3D body: height 0.6, standoff 0, extent -2.55,-2.55 2.55,2.55

## QFN50P500X500X80-29V [mm] "QFN, 28-Leads, Body 5x5mm, Pitch 0.5mm, NSC Recommended"
height 0.8
pads (29):
  rect 0.6x0.25 smd paste-0.125 mask+0.051: 1(-2.4,1.5) 2(-2.4,1) 3(-2.4,0.5) 4(-2.4,0) 5(-2.4,-0.5) 6(-2.4,-1) 7(-2.4,-1.5) 15(2.4,-1.5) 16(2.4,-1) 17(2.4,-0.5) 18(2.4,0) 19(2.4,0.5) 20(2.4,1) 21(2.4,1.5)
  rect 0.25x0.6 smd paste-0.125 mask+0.051: 8(-1.5,-2.4) 9(-1,-2.4) 10(-0.5,-2.4) 11(0,-2.4) 12(0.5,-2.4) 13(1,-2.4) 14(1.5,-2.4) 22(1.5,2.4) 23(1,2.4) 24(0.5,2.4) 25(0,2.4) 26(-0.5,2.4) 27(-1,2.4) 28(-1.5,2.4)
  rect 3.6x3.6 smd paste-1.8 mask+0.051: 29(0,0)
via 0,0.5 diameter 0.5 hole 0.2
via 0,-0.5 diameter 0.5 hole 0.2
via 0.5,0 diameter 0.5 hole 0.2
via -0.5,0 diameter 0.5 hole 0.2
via 1.5,0 diameter 0.5 hole 0.2
via 0,1.5 diameter 0.5 hole 0.2
via 0,-1.5 diameter 0.5 hole 0.2
via -1.5,0 diameter 0.5 hole 0.2
Top Overlay:
  circle w0.25: c-3.4,2.175 r0.125
  lines w0.2: -2.85,-2.025 -2.85,-2.85 -2.025,-2.85 ; -2.85,2.025 -2.85,2.85 -2.025,2.85 ; 2.025,-2.85 2.85,-2.85 2.85,-2.025 ; 2.025,2.85 2.85,2.85 2.85,2.025
Top Paste:
  rectangle: -2.9,1.375 -2.2,1.625
  rectangle: -2.9,0.875 -2.2,1.125
  rectangle: -2.9,0.375 -2.2,0.625
  rectangle: -2.9,-0.125 -2.2,0.125
  rectangle: -2.9,-0.625 -2.2,-0.375
  rectangle: -2.9,-1.125 -2.2,-0.875
  rectangle: -2.9,-1.625 -2.2,-1.375
  region: 2.9,-1.375 2.2,-1.375 2.2,-1.625 2.9,-1.625
  region: 2.9,-0.875 2.2,-0.875 2.2,-1.125 2.9,-1.125
  region: 2.9,-0.375 2.2,-0.375 2.2,-0.625 2.9,-0.625
  region: 2.9,0.125 2.2,0.125 2.2,-0.125 2.9,-0.125
  region: 2.9,0.625 2.2,0.625 2.2,0.375 2.9,0.375
  region: 2.9,1.125 2.2,1.125 2.2,0.875 2.9,0.875
  region: 2.9,1.625 2.2,1.625 2.2,1.375 2.9,1.375
  region: 1.375,2.9 1.375,2.2 1.625,2.2 1.625,2.9
  region: 0.875,2.9 0.875,2.2 1.125,2.2 1.125,2.9
  region: 0.375,2.9 0.375,2.2 0.625,2.2 0.625,2.9
  region: -0.125,2.9 -0.125,2.2 0.125,2.2 0.125,2.9
  region: -0.625,2.9 -0.625,2.2 -0.375,2.2 -0.375,2.9
  region: -1.125,2.9 -1.125,2.2 -0.875,2.2 -0.875,2.9
  region: -1.625,2.9 -1.625,2.2 -1.375,2.2 -1.375,2.9
  region: 1.625,-2.9 1.625,-2.2 1.375,-2.2 1.375,-2.9
  region: 1.125,-2.9 1.125,-2.2 0.875,-2.2 0.875,-2.9
  region: 0.625,-2.9 0.625,-2.2 0.375,-2.2 0.375,-2.9
  region: 0.125,-2.9 0.125,-2.2 -0.125,-2.2 -0.125,-2.9
  region: -0.375,-2.9 -0.375,-2.2 -0.625,-2.2 -0.625,-2.9
  region: -0.875,-2.9 -0.875,-2.2 -1.125,-2.2 -1.125,-2.9
  region: -1.375,-2.9 -1.375,-2.2 -1.625,-2.2 -1.625,-2.9
  rectangle: 0.15,0.15 1.7,1.7
  region: -0.15,1.7 -1.7,1.7 -1.7,0.15 -0.15,0.15
  region: -0.15,-0.15 -1.7,-0.15 -1.7,-1.7 -0.15,-1.7
  rectangle: 0.15,-1.7 1.7,-0.15
Mechanical 13:
  circle w0.1: c-1.65,1.65 r0.5
  lines w0.1: -2.55,-2.55 2.55,-2.55 2.55,2.55 -2.55,2.55 -2.55,-2.55
Mechanical 15:
  lines w0.1: -0.5,0 0.5,0 ; 0,-0.5 0,0.5 ; -2.8,-2.8 2.8,-2.8 2.8,2.8 -2.8,2.8 -2.8,-2.8
3D body: height 0.8, standoff 0, extent -2.55,-2.55 2.55,2.55